# EAGLE library part IS61WV25616 (library ic-ISSI)
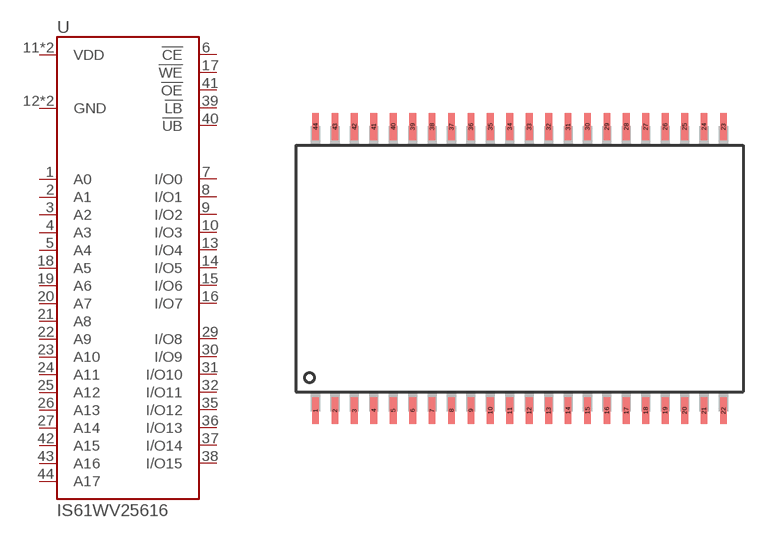
[diagram p0: symbol with the pads of TSOPII44; footprint TSOPII44]

Designator prefix U

## IS61WV25616  [TSOPII44]
1  A0
2  A1
3  A2
4  A3
5  A4
6  !CE
7  I/O0
8  I/O1
9  I/O2
10  I/O3
11  VDD
12  GND
13  I/O4
14  I/O5
15  I/O6
16  I/O7
17  !WE
18  A5
19  A6
20  A7
21  A8
22  A9
23  A10
24  A11
25  A12
26  A13
27  A14
29  I/O8
30  I/O9
31  I/O10
32  I/O11
33  VDD
34  GND
35  I/O12
36  I/O13
37  I/O14
38  I/O15
39  !LB
40  !UB
41  !OE
42  A15
43  A16
44  A17

## Footprint TSOPII44 (pad centres in mm)
smd 0.28 x 1.1: 1 -8.4,-5.85; 2 -7.6,-5.85; 3 -6.8,-5.85; 4 -6,-5.85; 5 -5.2,-5.85; 6 -4.4,-5.85; 7 -3.6,-5.85; 8 -2.8,-5.85; 9 -2,-5.85; 10 -1.2,-5.85; 11 -0.4,-5.85; 12 0.4,-5.85; 13 1.2,-5.85; 14 2,-5.85; 15 2.8,-5.85; 16 3.6,-5.85; 17 4.4,-5.85; 18 5.2,-5.85; 19 6,-5.85; 20 6.8,-5.85; 21 7.6,-5.85; 22 8.4,-5.85; 23 8.4,5.85; 24 7.6,5.85; 25 6.8,5.85; 26 6,5.85; 27 5.2,5.85; 28 4.4,5.85; 29 3.6,5.85; 30 2.8,5.85; 31 2,5.85; 32 1.2,5.85; 33 0.4,5.85; 34 -0.4,5.85; 35 -1.2,5.85; 36 -2,5.85; 37 -2.8,5.85; 38 -3.6,5.85; 39 -4.4,5.85; 40 -5.2,5.85; 41 -6,5.85; 42 -6.8,5.85; 43 -7.6,5.85; 44 -8.4,5.85